# Altium footprint library PCB - LEADLESS - DFN - LT DFN-6 2X2MM DC6 RF.PCBLIB: 1 footprints
Each footprint in its own frame and in the unit in brackets; x right, y up, seen from the top. Pads: shape width x height; smd on the part's side, far side on the other; paste and mask are expansions set on the pad; w line width, h text height; cw(c..) or ccw(c..) is an arc to the next point about the centre after c.
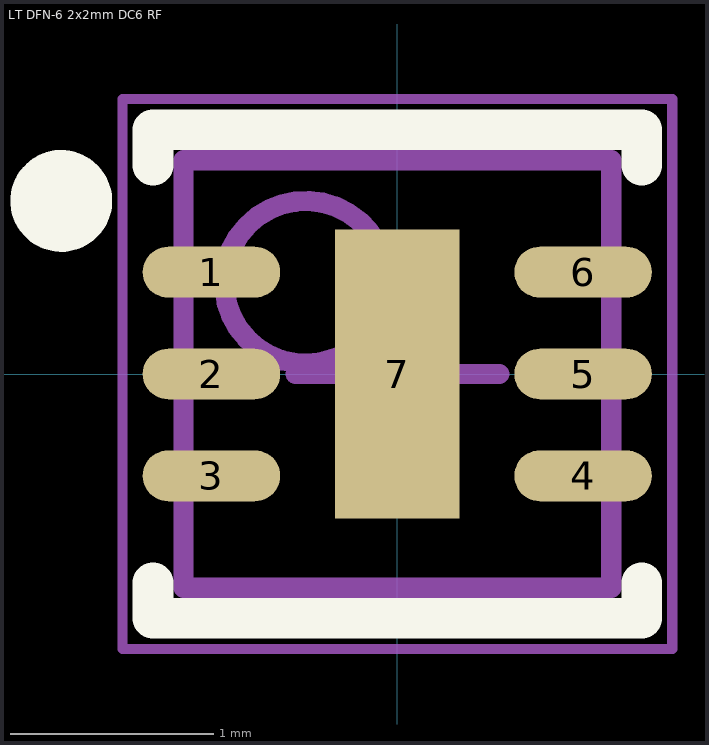
[diagram p0: the footprint, top view; thin cyan lines are the x and y axes]

## LT DFN-6 2x2mm DC6 RF [mm] "DFN, 6-Leads, Body 2.00x2.00mm, Pitch 0.50mm, Thermal Pad 0.61x1.42mm, IPC High Density"
height 0.75
pads (7):
  oval 0.675x0.25 smd: 1(-0.913,0.5) 2(-0.913,0) 3(-0.913,-0.5) 4(0.913,-0.5) 5(0.913,0) 6(0.913,0.5)
  rect 0.61x1.42 smd: 7(0,0)
Top Overlay:
  circle w0.25: c-1.65,0.85 r0.125
  lines w0.2: -1.2,-1.025 -1.2,-1.2 1.2,-1.2 1.2,-1.025 ; -1.2,1.025 -1.2,1.2 1.2,1.2 1.2,1.025
Mechanical 13:
  circle w0.1: c-0.45,0.45 r0.4
  lines w0.1: -1.05,-1.05 -1.05,1.05 1.05,1.05 1.05,-1.05 -1.05,-1.05
Mechanical 15:
  lines w0.05: -1.35,-1.35 -1.35,1.35 1.35,1.35 1.35,-1.35 -1.35,-1.35
  lines w0.1: -0.5,0 0.5,0 ; 0,-0.5 0,0.5
3D body: height 0.75, standoff 0.01, extent -1.05,-1.05 1.05,1.05